# Altium footprint library 插槽.PcbLib: 1 footprints
Each footprint in its own frame and in the unit in brackets; x right, y up, seen from the top. Pads: shape width x height; smd on the part's side, far side on the other; paste and mask are expansions set on the pad; w line width, h text height; cw(c..) or ccw(c..) is an arc to the next point about the centre after c.
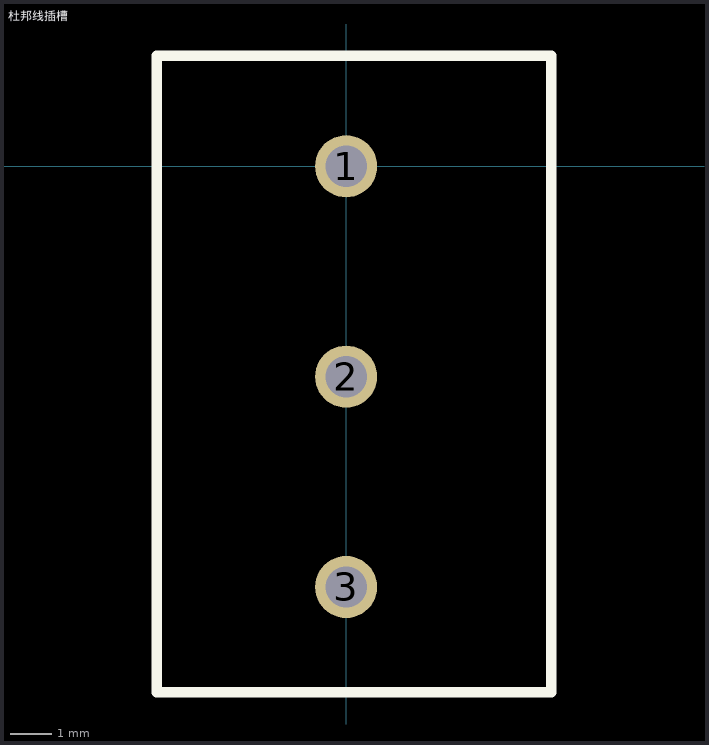
[diagram p0: the footprint, top view; thin cyan lines are the x and y axes]

## 杜邦线插槽 [mm]
pads (3):
  round 1.5 hole 1: 1(0,0) 2(0,-5.08) 3(0,-10.16)
Top Overlay:
  lines w0.254: -4.572,-12.7 4.953,-12.7 4.953,2.667 -4.572,2.667 -4.572,-12.7